# Altium schematic symbol library Switches.SchLib: 4 symbols
Pins are listed as number, name and electrical type; pins without a type are passive.

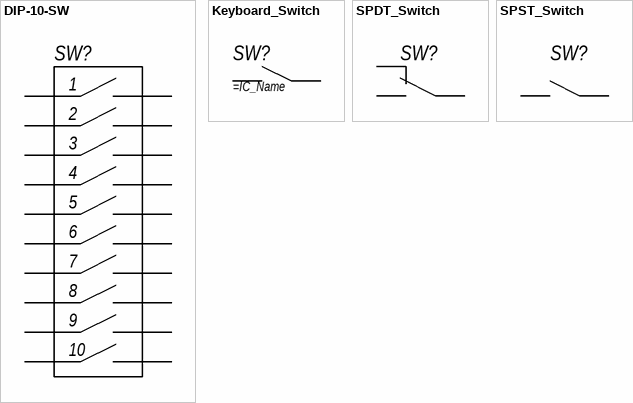
[diagram p0: symbols DIP-10-SW to SPST_Switch]

## DIP-10-SW
designator SW?, comment Switch-10  (value not drawn)
pins: 1, 2, 3, 4, 5, 6, 7, 8, 9, 10, 11, 12, 13, 14, 15, 16, 17, 18, 19, 20

## Keyboard_Switch
designator SW?
pins: 1, 2

## SPDT_Switch
designator SW?  (value not drawn)
pins: COM, NC, NO

## SPST_Switch
designator SW?, comment SW  (value not drawn)
pins: 1, 2